# EAGLE library part LPF_CS (library CubeSat3)
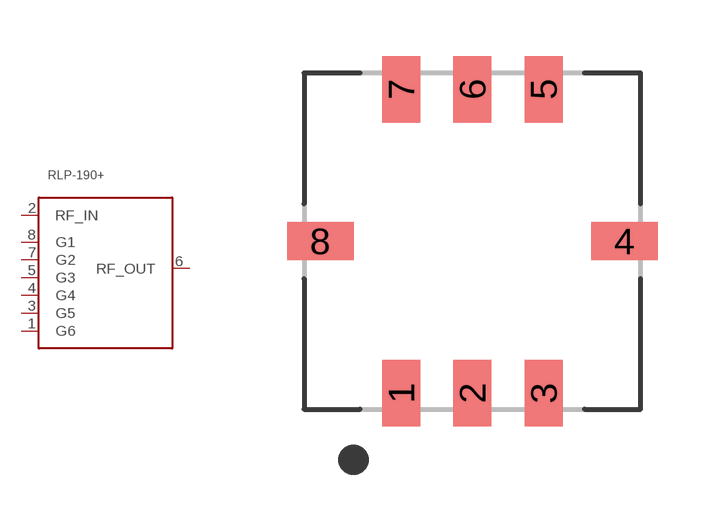
[diagram p1: symbol with the pads of PL-176; footprint PL-176]

Designator prefix -

## LPF_CS  [PL-176]
1  G6
2  RF_IN
3  G5
4  G4
5  G3
6  RF_OUT
7  G2
8  G1

## Footprint PL-176 (pad centres in mm)
smd 1.016 x 1.778: 1 -1.905,-4.064; 2 0,-4.064; 3 1.905,-4.064; 5 1.905,4.064; 6 0,4.064; 7 -1.905,4.064
smd 1.778 x 1.016: 4 4.064,0; 8 -4.064,0